# EAGLE library part FE23-2 (library shepherd)
FEMALE HEADER
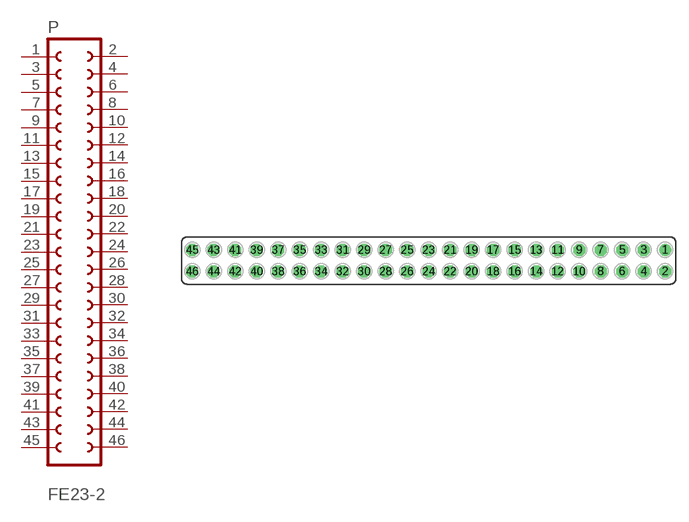
[diagram p17: symbol with the pads of FE23-2; footprint FE23-2]

Designator prefix P

## FE23-2 (OC_FARNELL: unknown; OC_NEWARK: unknown)  [FE23-2]
1  1  pas
2  2  pas
3  3  pas
4  4  pas
5  5  pas
6  6  pas
7  7  pas
8  8  pas
9  9  pas
10  10  pas
11  11  pas
12  12  pas
13  13  pas
14  14  pas
15  15  pas
16  16  pas
17  17  pas
18  18  pas
19  19  pas
20  20  pas
21  21  pas
22  22  pas
23  23  pas
24  24  pas
25  25  pas
26  26  pas
27  27  pas
28  28  pas
29  29  pas
30  30  pas
31  31  pas
32  32  pas
33  33  pas
34  34  pas
35  35  pas
36  36  pas
37  37  pas
38  38  pas
39  39  pas
40  40  pas
41  41  pas
42  42  pas
43  43  pas
44  44  pas
45  45  pas
46  46  pas

## Footprint FE23-2 (pad centres in mm)
FEMALE HEADER
drill 0.914: 1 27.94,1.27
drill 0.914 octagon: 2 27.94,-1.27; 3 25.4,1.27; 4 25.4,-1.27; 5 22.86,1.27; 6 22.86,-1.27; 7 20.32,1.27; 8 20.32,-1.27; 9 17.78,1.27; 10 17.78,-1.27; 11 15.24,1.27; 12 15.24,-1.27; 13 12.7,1.27; 14 12.7,-1.27; 15 10.16,1.27; 16 10.16,-1.27; 17 7.62,1.27; 18 7.62,-1.27; 19 5.08,1.27; 20 5.08,-1.27; 21 2.54,1.27; 22 2.54,-1.27; 23 0,1.27; 24 0,-1.27; 25 -2.54,1.27; 26 -2.54,-1.27; 27 -5.08,1.27; 28 -5.08,-1.27; 29 -7.62,1.27; 30 -7.62,-1.27; 31 -10.16,1.27; 32 -10.16,-1.27; 33 -12.7,1.27; 34 -12.7,-1.27; 35 -15.24,1.27; 36 -15.24,-1.27; 37 -17.78,1.27; 38 -17.78,-1.27; 39 -20.32,1.27; 40 -20.32,-1.27; 41 -22.86,1.27; 42 -22.86,-1.27; 43 -25.4,1.27; 44 -25.4,-1.27; 45 -27.94,1.27; 46 -27.94,-1.27